# Altium footprint library IMTP Разъемы.PcbLib: 28 footprints (part 2 of 2)
Each footprint in its own frame and in the unit in brackets; x right, y up, seen from the top. Pads: shape width x height; smd on the part's side, far side on the other; paste and mask are expansions set on the pad; w line width, h text height; cw(c..) or ccw(c..) is an arc to the next point about the centre after c.
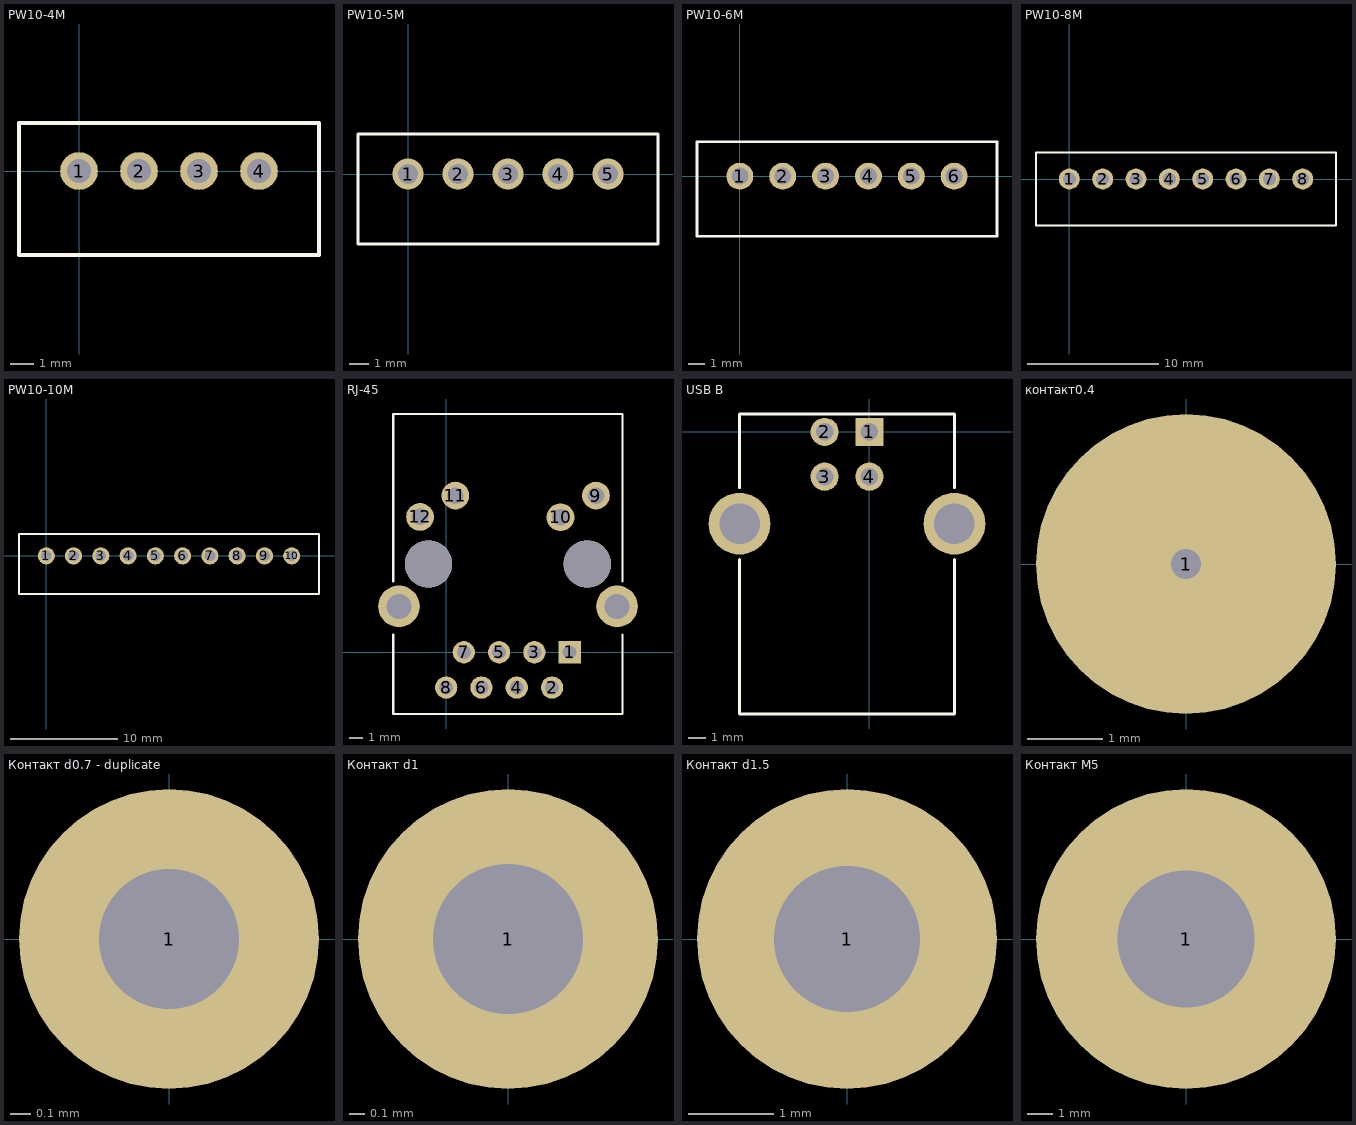
[diagram p1: the footprints below, top view; thin cyan lines are the x and y axes]

## PW10-4M [mm]
height 7
pads (4):
  round 1.6 hole 1: 1(0,0) 2(2.54,0) 3(5.08,0) 4(7.62,0)
Top Overlay:
  lines w0.15: -2.54,-3.556 10.16,-3.556 10.16,2.032 -2.54,2.032 -2.54,-3.556
3D body: height 7, standoff -3, extent 7.366,-0.254 7.874,0.254
3D body: height 7, standoff -3, extent 4.826,-0.254 5.334,0.254
3D body: height 7, standoff -3, extent 2.286,-0.254 2.794,0.254
3D body: height 7, standoff -3, extent -0.254,-0.254 0.254,0.254
3D body: height 7, standoff 0.1, extent -2.54,-3.556 10.16,0.508
3D body: height 7, standoff 0.1, extent -2.54,1.524 -0.508,2.032
3D body: height 7, standoff 0.1, extent 8.128,1.524 10.16,2.032
3D body: height 7, standoff 0.1, extent 1.016,1.524 6.604,2.032
3D body: height 2, standoff 0.1, extent -2.54,-3.556 10.16,2.032

## PW10-5M [mm]
height 7
pads (5):
  round 1.6 hole 1: 1(0,0) 2(2.54,0) 3(5.08,0) 4(7.62,0) 5(10.16,0)
Top Overlay:
  lines w0.15: -2.54,-3.556 -2.54,2.032 12.7,2.032 12.7,-3.556 -2.54,-3.556
3D body: height 2, standoff 0.1, extent -2.54,-3.556 12.7,2.032
3D body: height 7, standoff 0.1, extent 1.016,1.524 9.144,2.032
3D body: height 7, standoff 0.1, extent 10.668,1.524 12.7,2.032
3D body: height 7, standoff 0.1, extent -2.54,1.524 -0.508,2.032
3D body: height 7, standoff 0.1, extent -2.54,-3.556 12.7,0.508
3D body: height 7, standoff -3, extent -0.254,-0.254 0.254,0.254
3D body: height 7, standoff -3, extent 2.286,-0.254 2.794,0.254
3D body: height 7, standoff -3, extent 4.826,-0.254 5.334,0.254
3D body: height 7, standoff -3, extent 7.366,-0.254 7.874,0.254
3D body: height 7, standoff -3, extent 9.906,-0.254 10.414,0.254

## PW10-6M [mm]
pads (6):
  round 1.6 hole 1: 1(0,0) 2(2.54,0) 3(5.08,0) 4(7.62,0) 5(10.16,0) 6(12.7,0)
Top Overlay:
  lines w0.15: -2.54,-3.556 -2.54,2.032 15.24,2.032 15.24,-3.556 -2.54,-3.556
3D body: height 7, standoff -3, extent 12.446,-0.254 12.954,0.254
3D body: height 7, standoff -3, extent 9.906,-0.254 10.414,0.254
3D body: height 7, standoff -3, extent 7.366,-0.254 7.874,0.254
3D body: height 7, standoff -3, extent 4.826,-0.254 5.334,0.254
3D body: height 7, standoff -3, extent 2.286,-0.254 2.794,0.254
3D body: height 7, standoff -3, extent -0.254,-0.254 0.254,0.254
3D body: height 7, standoff 0.1, extent 1.016,1.524 11.684,2.032
3D body: height 7, standoff 0.1, extent 13.208,1.524 15.24,2.032
3D body: height 7, standoff 0.1, extent -2.54,1.524 -0.508,2.032
3D body: height 7, standoff 0.1, extent -2.54,-3.556 15.24,0.508
3D body: height 2, standoff 0.1, extent -2.54,-3.556 15.24,2.032

## PW10-8M [mm]
height 7
pads (8):
  round 1.6 hole 1: 1(0,0) 2(2.54,0) 3(5.08,0) 4(7.62,0) 5(10.16,0) 6(12.7,0) 7(15.24,0) 8(17.78,0)
Top Overlay:
  lines w0.15: -2.54,-3.3 -2.54,2.032 ; -2.54,2.032 20.32,2.032 20.32,-3.556 -2.54,-3.556 -2.54,2.032
3D body: height 7, standoff 0.1, extent 1.016,1.524 16.764,2.032
3D body: height 7, standoff 0.1, extent 18.288,1.524 20.32,2.032
3D body: height 7, standoff 0.1, extent -2.54,1.524 -0.508,2.032
3D body: height 7, standoff 0.1, extent -2.54,-3.556 20.32,0.508
3D body: height 2, standoff 0.1, extent -2.54,-3.556 20.32,2.032
3D body: height 7, standoff -3, extent -0.254,-0.254 0.254,0.254
3D body: height 7, standoff -3, extent 2.286,-0.254 2.794,0.254
3D body: height 7, standoff -3, extent 4.826,-0.254 5.334,0.254
3D body: height 7, standoff -3, extent 7.366,-0.254 7.874,0.254
3D body: height 7, standoff -3, extent 9.906,-0.254 10.414,0.254
3D body: height 7, standoff -3, extent 12.446,-0.254 12.954,0.254
3D body: height 7, standoff -3, extent 14.986,-0.254 15.494,0.254
3D body: height 7, standoff -3, extent 17.526,-0.254 18.034,0.254

## PW10-10M [mm]
pads (10):
  round 1.6 hole 1: 1(0,0) 2(2.54,0) 3(5.08,0) 4(7.62,0) 5(10.16,0) 6(12.7,0) 7(15.24,0) 8(17.78,0) 9(20.32,0) 10(22.86,0)
Top Overlay:
  lines w0.15: -2.54,-3.3 -2.54,2.032 ; -2.54,2.032 25.4,2.032 25.4,-3.556 -2.54,-3.556 -2.54,2.032
3D body: height 7, standoff 0.1, extent 1.016,1.524 21.844,2.032
3D body: height 7, standoff 0.1, extent 23.368,1.524 25.4,2.032
3D body: height 7, standoff 0.1, extent -2.54,1.524 -0.508,2.032
3D body: height 7, standoff 0.1, extent -2.54,-3.556 25.4,0.508
3D body: height 7, standoff -3, extent 17.526,-0.254 18.034,0.254
3D body: height 7, standoff -3, extent 14.986,-0.254 15.494,0.254
3D body: height 7, standoff -3, extent 12.446,-0.254 12.954,0.254
3D body: height 7, standoff -3, extent 9.906,-0.254 10.414,0.254
3D body: height 7, standoff -3, extent 7.366,-0.254 7.874,0.254
3D body: height 7, standoff -3, extent 4.826,-0.254 5.334,0.254
3D body: height 7, standoff -3, extent 2.286,-0.254 2.794,0.254
3D body: height 7, standoff -3, extent -0.254,-0.254 0.254,0.254
3D body: height 2, standoff 0.1, extent -2.54,-3.556 25.4,2.032
3D body: height 7, standoff -3, extent 20.066,-0.254 20.574,0.254
3D body: height 7, standoff -3, extent 22.606,-0.254 23.114,0.254

## RJ-45 [mm]
pads (16):
  rect 1.6x1.6 hole 1: 1(8.89,0)
  round 1.6 hole 1: 2(7.62,-2.54) 3(6.35,0) 4(5.08,-2.54) 5(3.81,0) 6(2.54,-2.54) 7(1.27,0) 8(0,-2.54)
  round 2 hole 1.2: 9(10.78,11.27) 10(8.23,9.71) 11(0.66,11.27) 12(-1.88,9.74)
  round 3 hole 1.8: ""(-3.4,3.3) ""(12.3,3.3)
  round 3.4 hole 3.4 unplated: ""(-1.27,6.35) ""(10.16,6.35)
Top Overlay:
  lines w0.15: -3.81,1.27 -3.81,-4.445 12.7,-4.445 12.7,1.27 ; -3.81,5.08 -3.81,17.145 12.7,17.145 12.7,6.35 12.7,5.08
3D body: height 0, standoff -2, extent 11.536,2.478 13.13,4.075
3D body: height 0, standoff -2, extent -4.164,2.478 -2.57,4.075
3D body: height 0, standoff -2, extent 8.526,4.708 11.713,7.902
3D body: height 0, standoff -2, extent -2.904,4.708 0.283,7.902
3D body: height 0, standoff -2, extent 8.41,-0.529 9.406,0.469
3D body: height 0, standoff -2, extent 7.14,-3.069 8.136,-2.071
3D body: height 0, standoff -2, extent 5.87,-0.529 6.866,0.469
3D body: height 0, standoff -2, extent 4.6,-3.069 5.596,-2.071
3D body: height 0, standoff -2, extent 3.33,-0.529 4.326,0.469
3D body: height 0, standoff -2, extent 2.06,-3.069 3.056,-2.071
3D body: height 0, standoff -2, extent -0.48,-3.069 0.516,-2.071
3D body: height 0, standoff -2, extent 0.79,-0.529 1.786,0.469
3D body: height 0, standoff -2, extent 10.3,10.741 11.296,11.739
3D body: height 0, standoff -2, extent 7.75,9.181 8.746,10.179
3D body: height 0, standoff -2, extent 0.18,10.741 1.176,11.739
3D body: height 0, standoff -2, extent -2.36,9.211 -1.364,10.209
3D body: height 14, standoff 0.1, extent -3.81,-4.445 12.7,17.145

## USB B [mm]
pads (6):
  rect 1.6x1.6 hole 1: 1(0,0)
  round 1.6 hole 1: 2(-2.54,0) 3(-2.54,-2.54) 4(0,-2.54)
  round 3.5 hole 2.3: ""(-7.366,-5.207) ""(4.826,-5.207)
Top Overlay:
  lines w0.15: -7.366,-7.239 -7.366,-16.002 4.826,-16.002 4.826,-7.239 ; -7.366,-3.175 -7.366,1.016 4.826,1.016 4.826,-3.175
3D body: height 11, standoff 0.1, extent -7.366,-16.002 4.826,1.016
3D body: height 0, standoff -2, extent -0.254,-2.794 0.254,-2.286
3D body: height 0, standoff -2, extent -2.794,-0.254 -2.286,0.254
3D body: height 0, standoff -2, extent -0.254,-0.254 0.254,0.254
3D body: height 0, standoff -2, extent -2.794,-2.794 -2.286,-2.286
3D body: height 0, standoff -2, extent 4.064,-5.969 5.588,-4.445
3D body: height 0, standoff -2, extent -8.128,-5.969 -6.604,-4.445

## контакт0.4 [mm]
pads (1):
  round 4 hole 0.4: 1(0,0)

## Контакт d0.7 - duplicate [mm]
pads (1):
  round 1.5 hole 0.7: 1(0,0)

## Контакт d1 [mm]
pads (1):
  round 2 hole 1: 1(0,0)

## Контакт d1.5 [mm]
pads (1):
  round 3.5 hole 1.7: 1(0,0)

## Контакт М5 [mm]
pads (1):
  round 12 hole 5.5: 1(0,0)